# EAGLE library part SN74LVC1G374 (library zz-upenn 2)
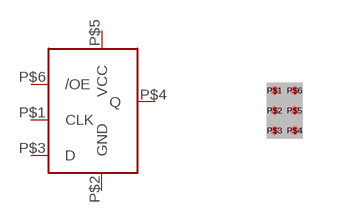
[diagram p13: symbol with the pads of DSBGA-6; footprint DSBGA-6]

Designator prefix -

## SN74LVC1G374  [DSBGA-6]
P$1  CLK
P$2  GND
P$3  D
P$4  Q
P$5  VCC
P$6  /OE

## Footprint DSBGA-6 (pad centres in mm)
smd 0.23 x 0.23: P$1 -0.25,0.5; P$2 -0.25,0; P$3 -0.25,-0.5; P$4 0.25,-0.5; P$5 0.25,0; P$6 0.25,0.5